# Altium footprint library Разьемы_корпуса.PcbLib: 1 footprints
Each footprint in its own frame and in the unit in brackets; x right, y up, seen from the top. Pads: shape width x height; smd on the part's side, far side on the other; paste and mask are expansions set on the pad; w line width, h text height; cw(c..) or ccw(c..) is an arc to the next point about the centre after c.
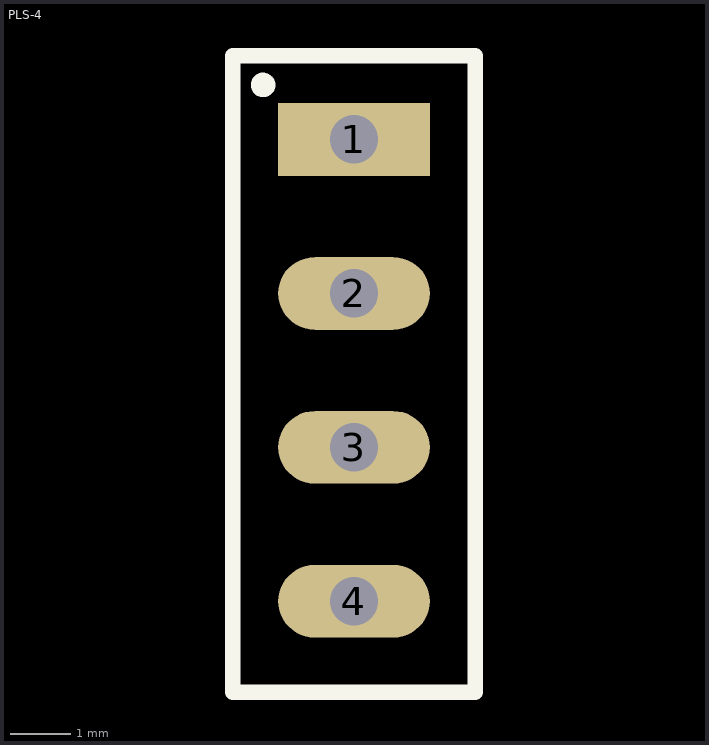
[diagram p0: the footprint, top view; thin cyan lines are the x and y axes]

## PLS-4 [mm] "X"
pads (4):
  rect 2.5x1.2 hole 0.8: 1(29,23)
  oval 2.5x1.2 hole 0.8: 2(29,20.46) 3(29,17.92) 4(29,15.38)
Top Overlay:
  circle w0.254: c27.5,23.9 r0.075
  lines w0.254: 27,13.88 31,13.88 31,24.38 27,24.38 27,13.88